# EAGLE library part TP4056X (library personal)
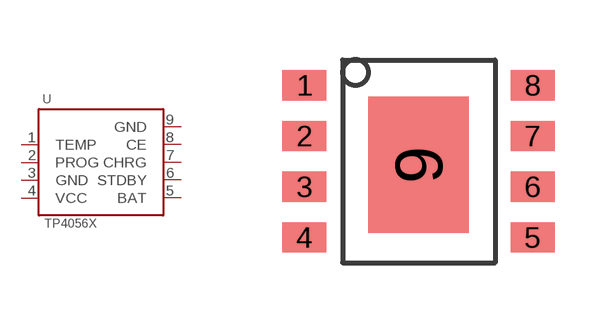
[diagram p1: symbol with the pads of ESPO8; footprint ESPO8]

Designator prefix -

## TP4056X  [ESPO8]
1  TEMP
2  PROG
3  GND
4  VCC
5  BAT
6  STDBY
7  CHRG
8  CE
9  GND

## Footprint ESPO8 (pad centres in mm)
TOPPOWER(Nanjing Extension Microelectronics) TP4056X
smd 1.1 x 0.76: 1 0,2.54; 2 0,1.27; 3 0,0; 4 0,-1.27; 5 5.7,-1.27; 6 5.7,0; 7 5.7,1.27; 8 5.7,2.54
smd 2.513 x 3.402: 9 2.85,0.55